# EAGLE library part 43860-0001 (library ell-i)
Mod. Jack, Right Angle, 8 posiotion, 8 contatcs RJ45 Source: GLX-S-88M.pdf
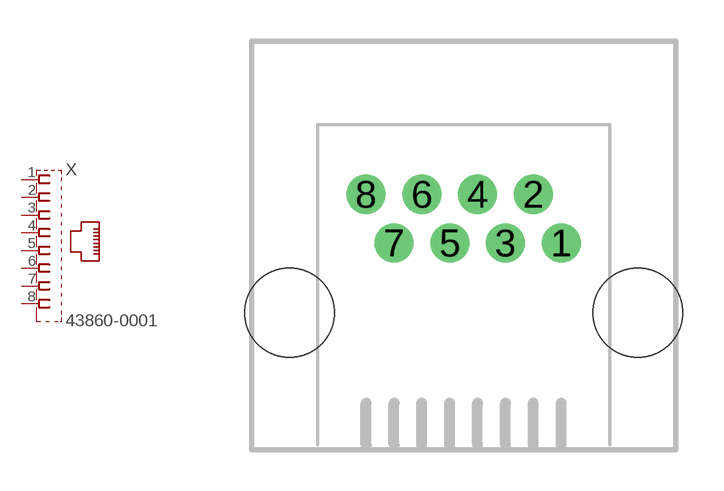
[diagram p9: symbol with the pads of 43860-0001; footprint 43860-0001]

Designator prefix X

## 43860-0001 (OC_FARNELL: unknown; OC_NEWARK: unknown)  [43860-0001]
1  1  pas
2  2  pas
3  3  pas
4  4  pas
5  5  pas
6  6  pas
7  7  pas
8  8  pas

## Footprint 43860-0001 (pad centres in mm)
Mod. Jack, Right Angle, 8 posiotion, 8 contatcs RJ45 Source: GLX-S-88M.pdf
drill 0.889 pad 1.422: 1 3.556,2.54; 2 2.54,4.318; 3 1.524,2.54; 4 0.508,4.318; 5 -0.508,2.54; 6 -1.524,4.318; 7 -2.54,2.54; 8 -3.556,4.318
hole 3.251 at 6.35,0
hole 3.251 at -6.35,0